# EAGLE library part SDS-ST2 (library relay-custom)
RELAY polarity, 2 x norm. open, NAiS
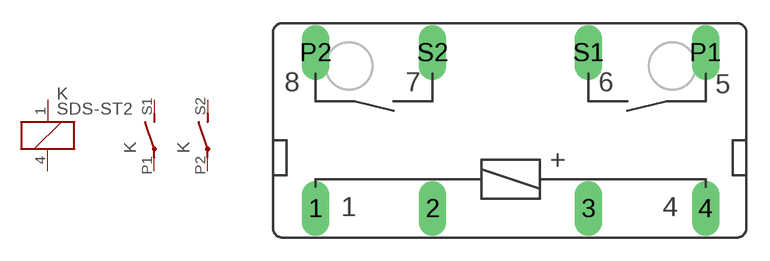
[diagram p11: symbol with the pads of SDS-ST2; footprint SDS-ST2]

Designator prefix K; gates 1=K 2=S 3=S

## SDS-ST2 (OC_FARNELL: unknown; OC_NEWARK: unknown)  [SDS-ST2]
1  1:1  pas
4  1:2  pas
P1  2:P  pas
P2  3:P  pas
S1  2:S  pas
S2  3:S  pas

## Footprint SDS-ST2 (pad centres in mm)
RELAY polarity, 2 x norm. open, NAiS
drill 1.194 long: 1 -12.7,-5.08; 2 -5.08,-5.08; 3 5.08,-5.08; 4 12.7,-5.08; P1 12.7,5.08; P2 -12.7,5.08; S1 5.08,5.08; S2 -5.08,5.08